# EAGLE library part MPL3115A2 (library SparkFun-Sensors)
NXP MPL3115A2 Digital Altimeter/Pressure Sensor The MPL3115A2 is a compact piezoresistive absolute pressure sensor with an I2C interface. MPL3115 has a wide operating range of 20kPa to 110 kPa, a range that covers all surface elevations on Earth. The fully internally compensated MEMS in conjunction with an embedded high resolution 24-bit equivalent ADC provide accurate pressure [Pascals] /altitude [meters] and temperature [degrees Celsius] data. Datasheet <http://cdn.sparkfun.com/datasheets/Sensors/Pressure/MPL3115A2.pdf> SparkFun Products SparkFun Altitude/Pressure Sensor Breakout - MPL3115A2 <https://www.sparkfun.com/products/11084> (SEN-11084) SparkFun Weather Shield <https://www.sparkfun.com/products/12081> (DEV-12081) SparkFun Photon Weather Shield <https://www.sparkfun.com/products/13630> (DEV-13630)
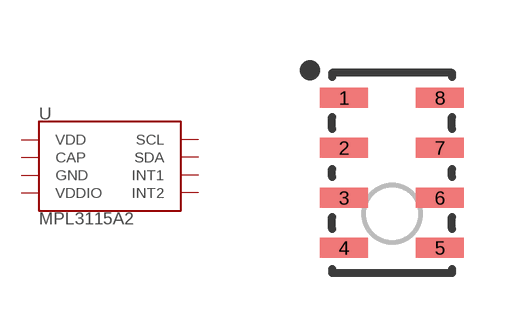
[diagram p12: symbol with the pads of LGA-8; footprint LGA-8]

Designator prefix U

## MPL3115A2 (PROD_ID: IC-10869)  [LGA-8]
1  VDD  pwr
2  CAP  pwr
3  GND  pwr
4  VDDIO  pwr
5  INT2  out
6  INT1  out
7  SDA
8  SCL

## Footprint LGA-8 (pad centres in mm)
8-Pin Land Grid Array (LGA) (5 x 3 mm) Datasheet <http://cdn.sparkfun.com/datasheets/Sensors/Pressure/MPL3115A2.pdf> Specifications: Pin Count: 8 Area: 5.0 x 3.0 x 1.2 mm Pitch: 1.25 mm Devices Using: MPL115A MPL3115A2
smd 1.2 x 0.5: 1 -1.2,1.875; 2 -1.2,0.625; 3 -1.2,-0.625; 4 -1.2,-1.875; 5 1.2,-1.875; 6 1.2,-0.625; 7 1.2,0.625; 8 1.2,1.875